# Altium footprint library 665 3xx 124 022.PcbLib: 7 footprints
Each footprint in its own frame and in the unit in brackets; x right, y up, seen from the top. Pads: shape width x height; smd on the part's side, far side on the other; paste and mask are expansions set on the pad; w line width, h text height; cw(c..) or ccw(c..) is an arc to the next point about the centre after c.
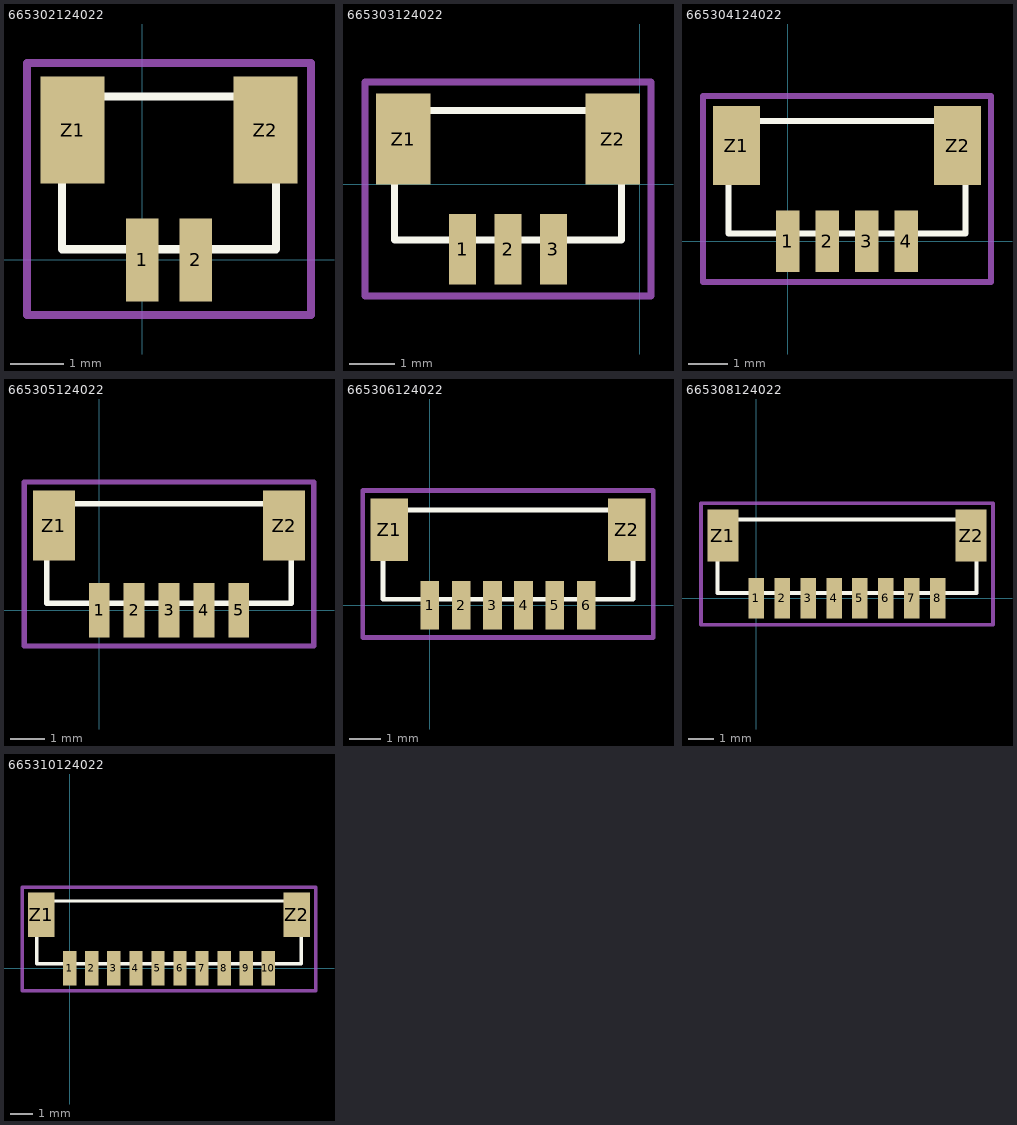
[diagram p0: the footprints below, top view; thin cyan lines are the x and y axes]

## 665302124022 [mm] "ConWTB Wire-to-Board Connectors 1.00 mm SMT Male Vertical Shrouded Header, 2 pins - Tape & Reel with Cap"
height 4.25
pads (4):
  rect 0.6x1.55 smd: 1(0,0) 2(1,0)
  rect 1.2x2 smd: Z1(-1.3,2.425) Z2(2.3,2.425)
Top Overlay:
  lines w0.152: -1.5,0.2 2.5,0.2 2.5,3.05 -1.5,3.05 -1.5,0.2
Mechanical 15:
  lines w0.152: -2.15,-1.025 3.15,-1.025 3.15,3.675 -2.15,3.675 -2.15,-1.025
3D body "665302124022.stp": height 5.09, standoff -0.04, extent -1.5,-0.9 2.5,3.6

## 665303124022 [mm] "ConWTB Wire-to-Board Connectors 1.00 mm SMT Male Vertical Shrouded Header, 3 pins - Tape & Reel with Cap"
height 4.25
pads (5):
  rect 0.6x1.55 smd: 1(-3.9,-1.425) 2(-2.9,-1.425) 3(-1.9,-1.425)
  rect 1.2x2 smd: Z1(-5.2,1) Z2(-0.6,1)
Top Overlay:
  lines w0.152: -5.4,-1.225 -0.4,-1.225 -0.4,1.625 -5.4,1.625 -5.4,-1.225
Mechanical 15:
  lines w0.152: -6.05,-2.45 0.25,-2.45 0.25,2.25 -6.05,2.25 -6.05,-2.45
3D body "665303124022.stp": height 5.09, standoff -0.04, extent -5.4,-2.325 -0.4,2.175

## 665304124022 [mm] "ConWTB Wire-to-Board Connectors 1.00 mm SMT Male Vertical Shrouded Header, 4 pins - Tape & Reel with Cap"
height 4.25
pads (6):
  rect 0.6x1.55 smd: 1(0,0) 2(1,0) 3(2,0) 4(3,0)
  rect 1.2x2 smd: Z1(-1.3,2.425) Z2(4.3,2.425)
Top Overlay:
  lines w0.152: -1.5,0.2 4.5,0.2 4.5,3.05 -1.5,3.05 -1.5,0.2
Mechanical 15:
  lines w0.152: -2.15,-1.025 5.15,-1.025 5.15,3.675 -2.15,3.675 -2.15,-1.025
3D body "665304124022.stp": height 5.09, standoff -0.04, extent -1.5,-0.9 4.5,3.6

## 665305124022 [mm] "ConWTB Wire-to-Board Connectors 1.00 mm SMT Male Vertical Shrouded Header, 5 pins - Tape & Reel with Cap"
height 4.25
pads (7):
  rect 0.6x1.55 smd: 1(0,0) 2(1,0) 3(2,0) 4(3,0) 5(4,0)
  rect 1.2x2 smd: Z1(-1.3,2.425) Z2(5.3,2.425)
Top Overlay:
  lines w0.152: -1.5,0.2 5.5,0.2 5.5,3.05 -1.5,3.05 -1.5,0.2
Mechanical 15:
  lines w0.152: -2.15,-1.025 6.15,-1.025 6.15,3.675 -2.15,3.675 -2.15,-1.025
3D body "665305124022.stp": height 5.09, standoff -0.04, extent -1.495,-0.9 5.505,3.6

## 665306124022 [mm] "ConWTB Wire-to-Board Connectors 1.00 mm SMT Male Vertical Shrouded Header, 6 pins - Tape & Reel with Cap"
height 4.25
pads (8):
  rect 0.6x1.55 smd: 1(0,0) 2(1,0) 3(2,0) 4(3,0) 5(4,0) 6(5,0)
  rect 1.2x2 smd: Z1(-1.3,2.425) Z2(6.3,2.425)
Top Overlay:
  lines w0.152: -1.5,0.2 6.5,0.2 6.5,3.05 -1.5,3.05 -1.5,0.2
Mechanical 15:
  lines w0.152: -2.15,-1.025 7.15,-1.025 7.15,3.675 -2.15,3.675 -2.15,-1.025
3D body "665306124022.stp": height 5.09, standoff -0.04, extent -1.505,-0.925 6.495,3.575

## 665308124022 [mm] "ConWTB Wire-to-Board Connectors 1.00 mm SMT Male Vertical Shrouded Header, 8 pins - Tape & Reel with Cap"
height 4.25
pads (10):
  rect 0.6x1.55 smd: 1(0,0) 2(1,0) 3(2,0) 4(3,0) 5(4,0) 6(5,0) 7(6,0) 8(7,0)
  rect 1.2x2 smd: Z1(-1.3,2.425) Z2(8.3,2.425)
Top Overlay:
  lines w0.152: -1.5,0.2 8.5,0.2 8.5,3.05 -1.5,3.05 -1.5,0.2
Mechanical 15:
  lines w0.152: -2.15,-1.025 9.15,-1.025 9.15,3.675 -2.15,3.675 -2.15,-1.025
3D body "665308124022.stp": height 5.09, standoff -0.04, extent -1.5,-0.88 8.5,3.62

## 665310124022 [mm] "ConWTB Wire-to-Board Connectors 1.00 mm SMT Male Vertical Shrouded Header, 10 pins - Tape & Reel with Cap"
height 4.25
pads (12):
  rect 0.6x1.55 smd: 1(0,0) 2(1,0) 3(2,0) 4(3,0) 5(4,0) 6(5,0) 7(6,0) 8(7,0) 9(8,0) 10(9,0)
  rect 1.2x2 smd: Z1(-1.3,2.425) Z2(10.3,2.425)
Top Overlay:
  lines w0.152: -1.5,0.2 -1.5,3.05 10.5,3.05 10.5,0.2 -1.5,0.2
Mechanical 15:
  lines w0.152: -2.15,-1.025 -2.15,3.675 11.15,3.675 11.15,-1.025 -2.15,-1.025
3D body "665310124022.stp": height 5.09, standoff -0.04, extent -1.51,-0.865 10.49,3.635